# EAGLE library part ANALOG-DEVICES2_ADUM3401 (library main)
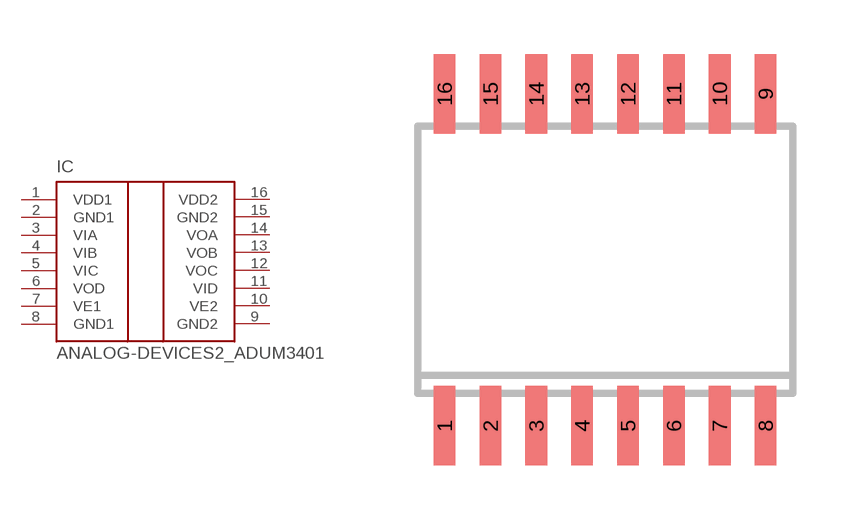
[diagram p4: symbol with the pads of ANALOG-DEVICES2_SO16W; footprint ANALOG-DEVICES2_SO16W]

Designator prefix IC

## ANALOG-DEVICES2_ADUM3401  [ANALOG-DEVICES2_SO16W]
1  VDD1  pwr
2  GND1  pwr
3  VIA  in
4  VIB  in
5  VIC  in
6  VOD  out
7  VE1  in
8  GND1  pwr
9  GND2  pwr
10  VE2  in
11  VID  in
12  VOC  out
13  VOB  out
14  VOA  out
15  GND2  pwr
16  VDD2  pwr

## Footprint ANALOG-DEVICES2_SO16W (pad centres in mm)
smd 0.6 x 2.2: 1 -4.445,-5.4; 2 -3.175,-5.4; 3 -1.905,-5.4; 4 -0.635,-5.4; 5 0.635,-5.4; 6 1.905,-5.4; 7 3.175,-5.4; 8 4.445,-5.4; 9 4.445,3.8; 10 3.175,3.8; 11 1.905,3.8; 12 0.635,3.8; 13 -0.635,3.8; 14 -1.905,3.8; 15 -3.175,3.8; 16 -4.445,3.8